# Altium integrated library 1-1734035-1.IntLib: 1 symbol
Pins are listed as number, name and electrical type; pins without a type are passive.

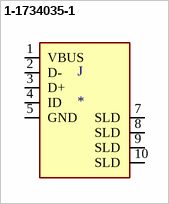
[diagram p0: symbol 1-1734035-1]

## 1-1734035-1
designator J
Conn Mini USB 2.0 Type B RCP 5 POS 0.8mm Solder RA SMD 5 Terminal 1 Port Tray; MP: 1-1734035-1; Centerline_Pitch: .8 mm[.031 in]; Product_Type: Connector; MF: TE Connectivity; Number_of_Positions: 5; Availability: Unavailable; Package: None; Value: *; TE_purchase_URL: https://www.te.com/usa-en/product-1-1734035-1.html?te_bu=Cor&te_type=disp&te_campaign=seda_glo_cor-seda-global-disp-prtnr-fy19-seda-model-bom-cta_sma-317_1&elqCampaignId=32493; Price: None; SnapEDA_Link: https://www.snapeda.com/parts/1-1734035-1/TE%20Connectivity%20AMP%20Connectors/view-part/1088867/?ref=snap
footprint TE_1-1734035-1
pins: 1 VBUS, 2 D-, 3 D+, 4 ID, 5 GND, 7 SLD, 8 SLD, 9 SLD, 10 SLD